# Altium schematic symbol library RELAY_SPST.SchLib: 1 symbol
Pins are listed as number, name and electrical type; pins without a type are passive.

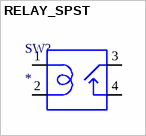
[diagram p0: symbol RELAY_SPST]

## RELAY_SPST
designator SW?
Value: *
pins: 1, 2, 3, 4